# Altium footprint library PCB - LEADED - SOTFL50P160X60-6N.PcbLib: 1 footprints
Each footprint in its own frame and in the unit in brackets; x right, y up, seen from the top. Pads: shape width x height; smd on the part's side, far side on the other; paste and mask are expansions set on the pad; w line width, h text height; cw(c..) or ccw(c..) is an arc to the next point about the centre after c.
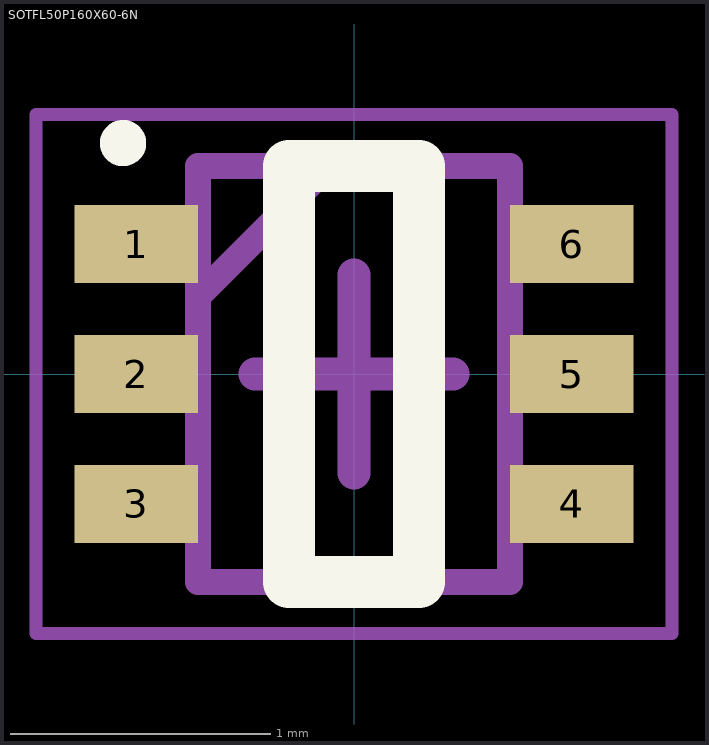
[diagram p0: the footprint, top view; thin cyan lines are the x and y axes]

## SOTFL50P160X60-6N [mm]
pads (6):
  rect 0.475x0.3 smd: 1(-0.838,0.5) 2(-0.838,0) 3(-0.838,-0.5) 4(0.838,-0.5) 5(0.838,0) 6(0.838,0.5)
Top Overlay:
  circle w0.127: c-0.889,0.889 r0.025
  lines w0.2: -0.25,-0.8 0.25,-0.8 0.25,0.8 -0.25,0.8 -0.25,-0.8
Top Assembly:
  lines w0.1: -0.6,0.3 -0.1,0.8 ; -0.6,-0.8 -0.6,0.8 0.6,0.8 0.6,-0.8 -0.6,-0.8
Top Courtyard:
  lines w0.05: -1.225,-1 -1.225,1 1.225,1 1.225,-1 -1.225,-1
Top Designator:
  text ".Designator" at -1.092,1.143 h0.23
Top Component Center:
  lines w0.127: -0.381,0 0,0 ; 0,-0.381 0,0 ; 0,0.381 0,0 ; 0.381,0 0,0
3D body "INA185A1IDRLR.stp": height 0.6, standoff 0, extent -0.8,-0.8 0.8,0.8